# EAGLE library part ACS764 (library ACS764)
8-bit Microcontroller with Multiprotocol Smart Card Interface Source: Uploaded by Heiko Künzel <heiko.kuenzel@atg-gera.de> from ATG Automatisierungstechnik Gera Mon Mar 10 13:32:48 2003 Atmel-Library mit zusätzlich T83C5121-Prozessor im SSOP24-Package.
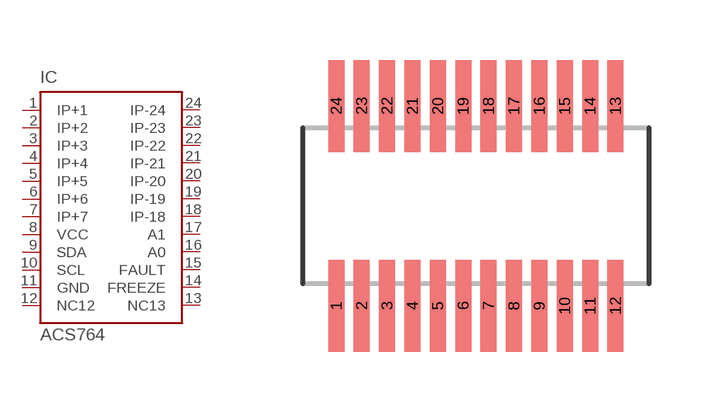
[diagram p0: symbol with the pads of SSOP24; footprint SSOP24]

Designator prefix IC

## ACS764 (OC_FARNELL: unknown; OC_NEWARK: unknown)  [SSOP24]
1  IP+1
2  IP+2
3  IP+3
4  IP+4
5  IP+5
6  IP+6
7  IP+7
8  VCC
9  SDA
10  SCL
11  GND
12  NC12
13  NC13
14  FREEZE
15  FAULT
16  A0
17  A1
18  IP-18
19  IP-19
20  IP-20
21  IP-21
22  IP-22
23  IP-23
24  IP-24

## Footprint SSOP24 (pad centres in mm)
SSOP 24 Source: Uploaded by Heiko Künzel <heiko.kuenzel@atg-gera.de> from ATG Automatisierungstechnik Gera Mon Mar 10 13:32:48 2003 Atmel-Library mit zusätzlich T83C5121-Prozessor im SSOP24-Package. Package centre and <NAME & <VALUE placed by librarian@cadsoft.de.
smd 0.4 x 2.3: 1 -3.51,-2.47; 2 -2.875,-2.47; 3 -2.24,-2.47; 4 -1.605,-2.47; 5 -0.97,-2.47; 6 -0.335,-2.47; 7 0.3,-2.47; 8 0.935,-2.47; 9 1.57,-2.47; 10 2.205,-2.47; 11 2.84,-2.47; 12 3.475,-2.47; 13 3.475,2.53; 14 2.84,2.53; 15 2.205,2.53; 16 1.57,2.53; 17 0.935,2.53; 18 0.3,2.53; 19 -0.335,2.53; 20 -0.97,2.53; 21 -1.605,2.53; 22 -2.24,2.53; 23 -2.875,2.53; 24 -3.51,2.53